# EAGLE library part MAX11606 (library robotter)
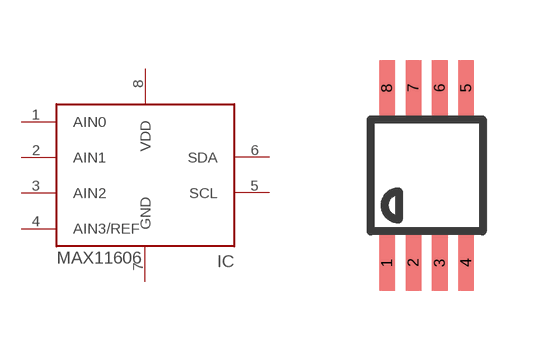
[diagram p4: symbol with the pads of UMAX8; footprint UMAX8]

Designator prefix IC

## MAX11606EUA+  [UMAX8]
1  AIN0
2  AIN1
3  AIN2
4  AIN3/REF
5  SCL
6  SDA
7  GND  pwr
8  VDD  pwr

## Footprint UMAX8 (pad centres in mm)
micro MAX Package
smd 0.39 x 1.4: 1 -0.99,-2.184; 2 -0.33,-2.184; 3 0.33,-2.184; 4 0.99,-2.184; 5 0.99,2.184; 6 0.33,2.184; 7 -0.33,2.184; 8 -0.99,2.184